# EAGLE library part LP38798 (library texas-instruments)
800-mA Ultra-Low-Noise, High-PSRR LDO
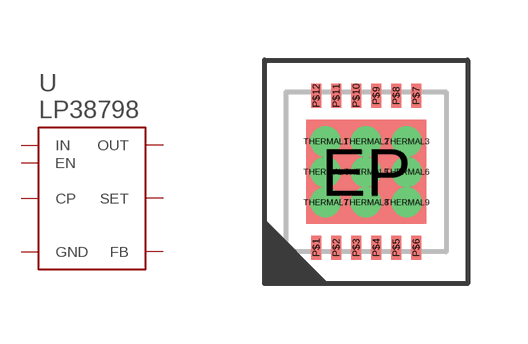
[diagram p23: symbol with the pads of DNT-PACKAGE; footprint DNT-PACKAGE]

Designator prefix U

## LP38798SD  [DNT-PACKAGE]
EP  GND
P$1  IN
P$2  IN
P$3  IN
P$4  CP
P$5  EN
P$6  GND
P$7  GND
P$8  FB
P$9  SET
P$10  OUT
P$11  OUT
P$12  OUT
THERMAL1  GND
THERMAL2  GND
THERMAL3  GND
THERMAL4  GND
THERMAL5  GND
THERMAL6  GND
THERMAL7  GND
THERMAL8  GND
THERMAL9  GND

## Footprint DNT-PACKAGE (pad centres in mm)
smd 3 x 2.6: EP 0,0
smd 0.25 x 0.6: P$1 -1.25,-1.9; P$2 -0.75,-1.9; P$3 -0.25,-1.9; P$4 0.25,-1.9; P$5 0.75,-1.9; P$6 1.25,-1.9; P$7 1.25,1.9; P$8 0.75,1.9; P$9 0.25,1.9; P$10 -0.25,1.9; P$11 -0.75,1.9; P$12 -1.25,1.9
drill 0.254 pad 0.457: THERMAL1 -1.016,0.762; THERMAL2 0,0.762; THERMAL3 1.016,0.762; THERMAL4 -1.016,0; THERMAL5 0,0; THERMAL6 1.016,0; THERMAL7 -1.016,-0.762; THERMAL8 0,-0.762; THERMAL9 1.016,-0.762